# Altium footprint library SecureBot.PcbLib: 69 footprints (part 5 of 5)
Each footprint in its own frame and in the unit in brackets; x right, y up, seen from the top. Pads: shape width x height; smd on the part's side, far side on the other; paste and mask are expansions set on the pad; w line width, h text height; cw(c..) or ccw(c..) is an arc to the next point about the centre after c.
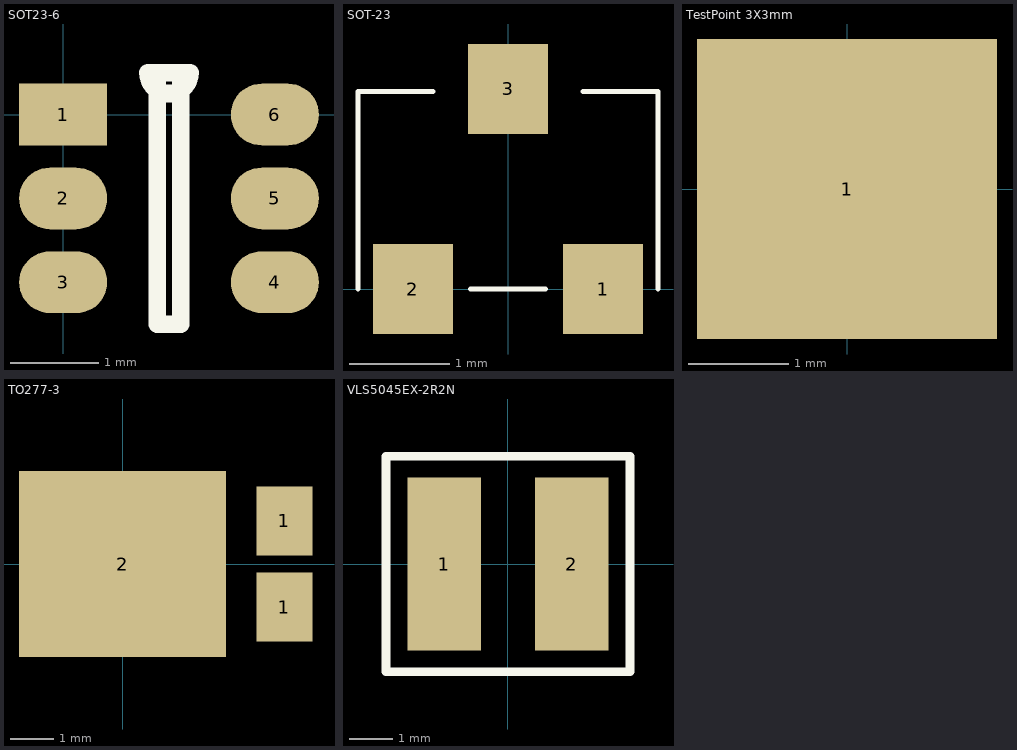
[diagram p4: the footprints below, top view; thin cyan lines are the x and y axes]

## SOT23-6 [mm]
pads (6):
  rect 1x0.7 smd: 1(0,0)
  oval 1x0.7 smd: 2(0,-0.95) 3(0,-1.9) 4(2.4,-1.9) 5(2.4,-0.95) 6(2.4,0)
Top Overlay:
  lines w0.2: 0.962,0.475 ccw(c1.2,0.475) 1.438,0.475 1.065,0.475 1.065,-2.375 1.335,-2.375 1.335,0.475 0.962,0.475

## SOT-23 [mm]
pads (3):
  rect 0.8x0.9 smd: 1(0.95,0) 2(-0.95,0) 3(0,2)
Top Overlay:
  lines w0.05: -1.5,0 -1.5,1.975 -0.75,1.975 ; -0.375,0 0,0 0.375,0 ; 0.75,1.975 1.5,1.975 1.5,0

## TestPoint 3X3mm [mm]
pads (1):
  rect 3x3 smd: 1(0,0)

## TO277-3 [mm]
pads (3):
  rect 1.3x1.6 smd: 1(3.75,-1) 1(3.75,1)
  rect 4.8x4.3 smd: 2(0,0)

## VLS5045EX-2R2N [mm]
pads (2):
  rect 1.7x4 smd: 1(-1.475,0) 2(1.475,0)
Top Overlay:
  lines w0.2: -2.825,-2.5 2.825,-2.5 2.825,2.5 -2.825,2.5 -2.825,0 -2.825,-2.5